# EAGLE library part EXBV8V (library Panasonic-EXB-ERJ)
Chip Resistor Array
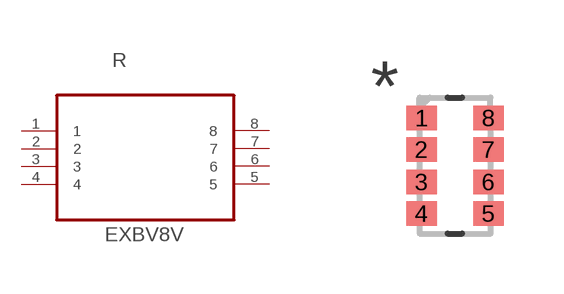
[diagram p4: symbol with the pads of RESCAV80P320X160X70-8N; footprint RESCAV80P320X160X70-8N]

Designator prefix R

## EXBV8V100JV (MPN: EXBV8V100JV; OC_FARNELL: 2060149; OC_NEWARK: 65T8995; PACKAGE: 0603; POWERRATING: 0.063 W/element; SUPPLIER: PANASONIC; TOLERANCE: ±5 %; VALUE: 10R), EXBV8V101JV (MPN: EXBV8V101JV; OC_FARNELL: 2060157; OC_NEWARK: 65T8996; PACKAGE: 0603; POWERRATING: 0.063 W/element; SUPPLIER: PANASONIC; TOLERANCE: ±5 %; VALUE: 100R), EXBV8V102JV (MPN: EXBV8V102JV; OC_FARNELL: 2060162; OC_NEWARK: 65T8997; PACKAGE: 0603; POWERRATING: 0.063 W/element; SUPPLIER: PANASONIC; TOLERANCE: ±5 %; VALUE: 1K), EXBV8V103JV (MPN: EXBV8V103JV; OC_FARNELL: 2060167; OC_NEWARK: 65T8998; PACKAGE: 0603; POWERRATING: 0.063 W/element; SUPPLIER: PANASONIC; TOLERANCE: ±5 %; VALUE: 10K), EXBV8V104JV (MPN: EXBV8V104JV; OC_FARNELL: 2060173; OC_NEWARK: 65T8999; PACKAGE: 0603; POWERRATING: 0.063 W/element; SUPPLIER: PANASONIC; TOLERANCE: ±5 %; VALUE: 100K), EXBV8V105JV (MPN: EXBV8V105JV; OC_FARNELL: 2060175; OC_NEWARK: 65T9000; PACKAGE: 0603; POWERRATING: 0.063 W/element; SUPPLIER: PANASONIC; TOLERANCE: ±5 %; VALUE: 1MR), EXBV8V124JV (MPN: EXBV8V124JV; OC_FARNELL: 2060174; OC_NEWARK: Unknown; PACKAGE: 0603; POWERRATING: 0.063 W/element; SUPPLIER: PANASONIC; TOLERANCE: ±5 %; VALUE: 120K), EXBV8V151JV (MPN: EXBV8V151JV; OC_FARNELL: 2060158; OC_NEWARK: 65T9002; PACKAGE: 0603; POWERRATING: 0.063 W/element; SUPPLIER: PANASONIC; TOLERANCE: ±5 %; VALUE: 150R), EXBV8V220JV (MPN: EXBV8V220JV; OC_FARNELL: 2060150; OC_NEWARK: 65T9003; PACKAGE: 0603; POWERRATING: 0.063 W/element; SUPPLIER: PANASONIC; TOLERANCE: ±5 %; VALUE: 22R), EXBV8V221JV (MPN: EXBV8V221JV; OC_FARNELL: 2060159; OC_NEWARK: 65T9004; PACKAGE: 0603; POWERRATING: 0.063 W/element; SUPPLIER: PANASONIC; TOLERANCE: ±5 %; VALUE: 220R), EXBV8V222JV (MPN: EXBV8V222JV; OC_FARNELL: 2060163; OC_NEWARK: 65T9005; PACKAGE: 0603; POWERRATING: 0.063 W/element; SUPPLIER: PANASONIC; TOLERANCE: ±5 %; VALUE: 2K2), EXBV8V223JV (MPN: EXBV8V223JV; OC_FARNELL: 2060168; OC_NEWARK: 65T9006; PACKAGE: 0603; POWERRATING: 0.063 W/element; SUPPLIER: PANASONIC; TOLERANCE: ±5 %; VALUE: 22K), EXBV8V270JV (MPN: EXBV8V270JV; OC_FARNELL: 2060151; OC_NEWARK: Unknown; PACKAGE: 0603; POWERRATING: 0.063 W/element; SUPPLIER: PANASONIC; TOLERANCE: ±5 %; VALUE: 27R), EXBV8V273JV (MPN: EXBV8V273JV; OC_FARNELL: 2060169; OC_NEWARK: 65T9008; PACKAGE: 0603; POWERRATING: 0.063 W/element; SUPPLIER: PANASONIC; TOLERANCE: ±5 %; VALUE: 27K), EXBV8V330JV (MPN: EXBV8V330JV; OC_FARNELL: 2060153; OC_NEWARK: 65T9009; PACKAGE: 0603; POWERRATING: 0.063 W/element; SUPPLIER: PANASONIC; TOLERANCE: ±5 %; VALUE: 33R), EXBV8V331JV (MPN: EXBV8V331JV; OC_FARNELL: 2060160; OC_NEWARK: 65T9010; PACKAGE: 0603; POWERRATING: 0.063 W/element; SUPPLIER: PANASONIC; TOLERANCE: ±5 %; VALUE: 330R), EXBV8V332JV (MPN: EXBV8V332JV; OC_FARNELL: 2060165; OC_NEWARK: 65T9011; PACKAGE: 0603; POWERRATING: 0.063 W/element; SUPPLIER: PANASONIC; TOLERANCE: ±5 %; VALUE: 3K3), EXBV8V390JV (MPN: EXBV8V390JV; OC_FARNELL: 2060154; OC_NEWARK: 65T9012; PACKAGE: 0603; POWERRATING: 0.063 W/element; SUPPLIER: PANASONIC; TOLERANCE: ±5 %; VALUE: 39R), EXBV8V391JV (MPN: EXBV8V391JV; OC_FARNELL: 2060161; OC_NEWARK: 65T9013; PACKAGE: 0603; POWERRATING: 0.063 W/element; SUPPLIER: PANASONIC; TOLERANCE: ±5 %; VALUE: 390R), EXBV8V470JV (MPN: EXBV8V470JV; OC_FARNELL: 2060155; OC_NEWARK: 65T9014; PACKAGE: 0603; POWERRATING: 0.063 W/element; SUPPLIER: PANASONIC; TOLERANCE: ±5 %; VALUE: 47R), EXBV8V471JV (MPN: EXBV8V471JV; OC_FARNELL: 2283545; OC_NEWARK: 53W5038; PACKAGE: 0603; POWERRATING: 0.063 W/element; SUPPLIER: PANASONIC; TOLERANCE: ±5 %; VALUE: 470R), EXBV8V472JV (MPN: EXBV8V472JV; OC_FARNELL: 2060166; OC_NEWARK: 65T9015; PACKAGE: 0603; POWERRATING: 0.063 W/element; SUPPLIER: PANASONIC; TOLERANCE: ±5 %; VALUE: 4K7), EXBV8V473JV (MPN: EXBV8V473JV; OC_FARNELL: 2060170; OC_NEWARK: 65T9016; PACKAGE: 0603; POWERRATING: 0.063 W/element; SUPPLIER: PANASONIC; TOLERANCE: ±5 %; VALUE: 47K), EXBV8V563JV (MPN: EXBV8V563JV; OC_FARNELL: 2060171; OC_NEWARK: Unknown; PACKAGE: 0603; POWERRATING: 0.063 W/element; SUPPLIER: PANASONIC; TOLERANCE: ±5 %; VALUE: 56K), EXBV8V680JV (MPN: EXBV8V680JV; OC_FARNELL: 2060156; OC_NEWARK: 65T9018; PACKAGE: 0603; POWERRATING: 0.063 W/element; SUPPLIER: PANASONIC; TOLERANCE: ±5 %; VALUE: 68R), EXBV8V683JV (MPN: EXBV8V683JV; OC_FARNELL: 2060172; OC_NEWARK: 65T9019; PACKAGE: 0603; POWERRATING: 0.063 W/element; SUPPLIER: PANASONIC; TOLERANCE: ±5 %; VALUE: 68K), EXBV8VR000V (MPN: EXBV8VR000V; OC_FARNELL: 2060148; OC_NEWARK: 65T8994; PACKAGE: 0603; POWERRATING: 0.063 W/element; SUPPLIER: PANASONIC; TOLERANCE: -; VALUE: 0R)  [RESCAV80P320X160X70-8N]
1  1  pas
2  2  pas
3  3  pas
4  4  pas
5  5  pas
6  6  pas
7  7  pas
8  8  pas

## Footprint RESCAV80P320X160X70-8N (pad centres in mm)
smd 0.762 x 0.61: 1 -0.838,1.194; 2 -0.838,0.406; 3 -0.838,-0.406; 4 -0.838,-1.194; 5 0.838,-1.194; 6 0.838,-0.406; 7 0.838,0.406; 8 0.838,1.194